# Altium footprint library SOT-23_JEDEC-MO-178.PcbLib: 1 footprints
Each footprint in its own frame and in the unit in brackets; x right, y up, seen from the top. Pads: shape width x height; smd on the part's side, far side on the other; paste and mask are expansions set on the pad; w line width, h text height; cw(c..) or ccw(c..) is an arc to the next point about the centre after c.
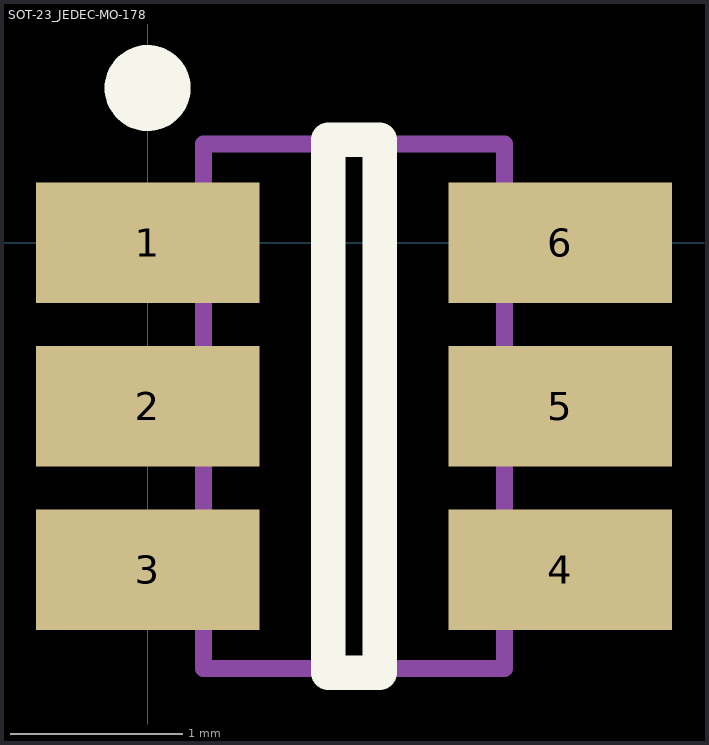
[diagram p0: the footprint, top view; thin cyan lines are the x and y axes]

## SOT-23_JEDEC-MO-178 [mm] "6-Lead SOT23, JEDEC-178"
height 1.45
pads (6):
  rect 1.3x0.7 smd: 1(0,0) 2(0,-0.95) 3(0,-1.9) 4(2.4,-1.9) 5(2.4,-0.95) 6(2.4,0)
Top Overlay:
  circle w0.25: c0,0.9 r0.125
  lines w0.2: 1.05,-2.5 1.35,-2.5 1.35,0.6 1.05,0.6 1.05,-2.5
Mechanical 13:
  lines w0.1: 0.325,-2.475 0.325,0.575 2.075,0.575 2.075,-2.475 0.325,-2.475
3D body "SOT23_MO-178C.STEP": height 1.45, standoff 0, extent -0.205,-2.4 2.605,0.5